# Altium schematic symbol library IC.Memory.SchLib: 4 symbols
Pins are listed as number, name and electrical type; pins without a type are passive.

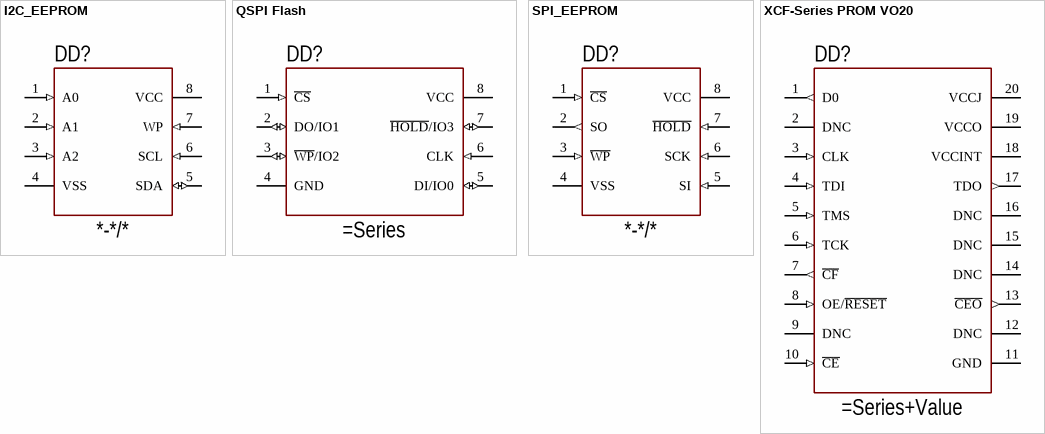
[diagram p0: symbols I2C_EEPROM to XCF-Series PROM VO20]

## I2C_EEPROM
designator DD?, comment *-*/*
I2C EEPROM; Package: *; Temperature: *; Series: *
pins: 1 A0 (in), 2 A1 (in), 3 A2 (in), 4 VSS, 5 SDA (io), 6 SCL (in), 7 WP (in), 8 VCC

## QSPI Flash
designator DD?
QSPI Flash
pins: 1 ~{CS} (in), 2 DO/IO1 (io), 3 ~{WP}/IO2 (io), 4 GND, 5 DI/IO0 (io), 6 CLK (in), 7 ~{HOLD}/IO3 (io), 8 VCC

## SPI_EEPROM
designator DD?, comment *-*/*
SPI EEPROM; Series: *; Temperature: *; Package: *
footprint SOIC-8_4.90x3.90mm (SOIC, 8-Leads, Body 4.90x3.90mm, Pitch 1.27mm, IPC Medium Density)
pins: 1 ~{CS} (in), 2 SO (out), 3 ~{WP} (in), 4 VSS, 5 SI (in), 6 SCK (in), 7 ~{HOLD} (in), 8 VCC

## XCF-Series PROM VO20
designator DD?
Platform Flash In-System Programmable Configuration PROM
pins: 1 D0 (out), 2 DNC, 3 CLK (in), 4 TDI (in), 5 TMS (in), 6 TCK (in), 7 ~{CF} (out), 8 OE/~{RESET} (in), 9 DNC, 10 ~{CE} (in), 11 GND, 12 DNC, 13 ~{CEO} (out), 14 DNC, 15 DNC, 16 DNC, 17 TDO (out), 18 VCCINT, 19 VCCO, 20 VCCJ